# Altium schematic symbol library MQ-7.SchLib: 1 symbol
Pins are listed as number, name and electrical type; pins without a type are passive.

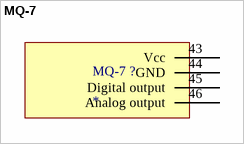
[diagram p0: symbol MQ-7]

## MQ-7
designator MQ-7 ?
footprint MQ-7
footprint MQ-7 Up
pins: 43 Vcc, 44 GND, 45 Digital output, 46 Analog output